# EAGLE library part HFA3127 (library meng)
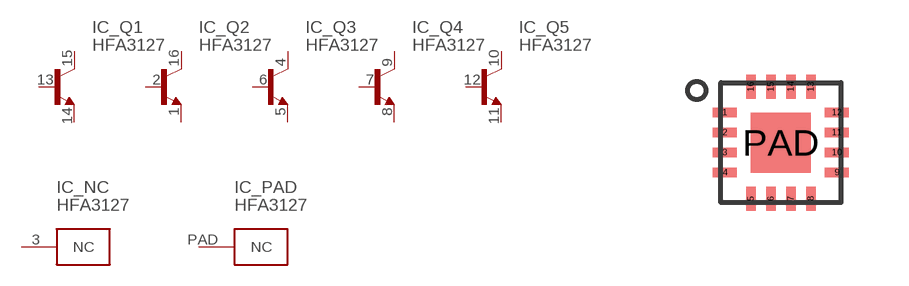
[diagram p29: symbol with the pads of QFN16_3X3; footprint QFN16_3X3]

Designator prefix IC; gates _Q1=NPN _Q2=NPN _Q3=NPN _Q4=NPN _Q5=NPN _NC=NC _PAD=NC

## HFA3127 (VALUR: HFA3127)  [QFN16_3X3]
1  _Q2:E  pas
2  _Q2:B  pas
3  _NC:NC
4  _Q3:C  pas
5  _Q3:E  pas
6  _Q3:B  pas
7  _Q4:B  pas
8  _Q4:E  pas
9  _Q4:C  pas
10  _Q5:C  pas
11  _Q5:E  pas
12  _Q5:B  pas
13  _Q1:B  pas
14  _Q1:E  pas
15  _Q1:C  pas
16  _Q2:C  pas
PAD  _PAD:NC

## Footprint QFN16_3X3 (pad centres in mm)
smd 0.6 x 0.23: 1 -1.4,0.75; 2 -1.4,0.25; 3 -1.4,-0.25; 4 -1.4,-0.75; 9 1.4,-0.75; 10 1.4,-0.25; 11 1.4,0.25; 12 1.4,0.75
smd 0.23 x 0.6: 5 -0.75,-1.4; 6 -0.25,-1.4; 7 0.25,-1.4; 8 0.75,-1.4; 13 0.75,1.4; 14 0.25,1.4; 15 -0.25,1.4; 16 -0.75,1.4
smd 1.5 x 1.5: PAD 0,0